# EAGLE library part ATMEGA32U4-MU (library SamacSys_Parts)
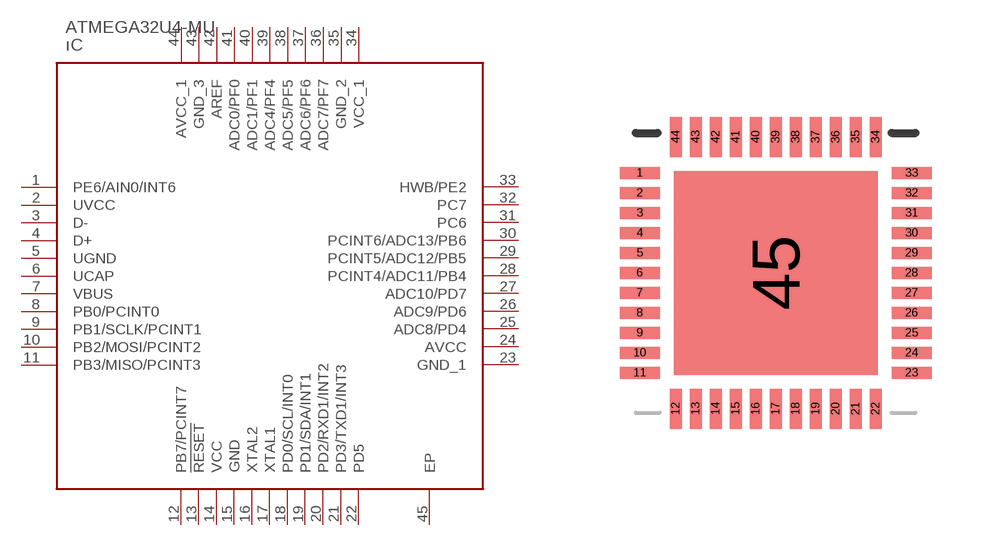
[diagram p21: symbol with the pads of QFN-44; footprint QFN-44]

Designator prefix ıC

## ATMEGA32U4-MU  [QFN-44]
1  PE6/AIN0/INT6
2  UVCC  pwr
3  D-
4  D+
5  UGND  pwr
6  UCAP
7  VBUS  pwr
8  PB0/PCINT0
9  PB1/SCLK/PCINT1
10  PB2/MOSI/PCINT2
11  PB3/MISO/PCINT3
12  PB7/PCINT7
13  !RESET
14  VCC  pwr
15  GND  pwr
16  XTAL2
17  XTAL1
18  PD0/SCL/INT0
19  PD1/SDA/INT1
20  PD2/RXD1/INT2
21  PD3/TXD1/INT3
22  PD5
23  GND_1  pwr
24  AVCC  pwr
25  ADC8/PD4
26  ADC9/PD6
27  ADC10/PD7
28  PCINT4/ADC11/PB4
29  PCINT5/ADC12/PB5
30  PCINT6/ADC13/PB6
31  PC6
32  PC7  in
33  HWB/PE2
34  VCC_1  pwr
35  GND_2  pwr
36  ADC7/PF7
37  ADC6/PF6
38  ADC5/PF5
39  ADC4/PF4
40  ADC1/PF1
41  ADC0/PF0
42  AREF  in
43  GND_3  pwr
44  AVCC_1  pwr
45  EP  pwr

## Footprint QFN-44 (pad centres in mm)
ATMEGA32U4-MU
smd 1 x 0.3: 1 -3.4,2.5; 2 -3.4,2; 3 -3.4,1.5; 4 -3.4,1; 5 -3.4,0.5; 6 -3.4,0; 7 -3.4,-0.5; 8 -3.4,-1; 9 -3.4,-1.5; 10 -3.4,-2; 11 -3.4,-2.5; 23 3.4,-2.5; 24 3.4,-2; 25 3.4,-1.5; 26 3.4,-1; 27 3.4,-0.5; 28 3.4,0; 29 3.4,0.5; 30 3.4,1; 31 3.4,1.5; 32 3.4,2; 33 3.4,2.5
smd 0.3 x 1: 12 -2.5,-3.4; 13 -2,-3.4; 14 -1.5,-3.4; 15 -1,-3.4; 16 -0.5,-3.4; 17 0,-3.4; 18 0.5,-3.4; 19 1,-3.4; 20 1.5,-3.4; 21 2,-3.4; 22 2.5,-3.4; 34 2.5,3.4; 35 2,3.4; 36 1.5,3.4; 37 1,3.4; 38 0.5,3.4; 39 0,3.4; 40 -0.5,3.4; 41 -1,3.4; 42 -1.5,3.4; 43 -2,3.4; 44 -2.5,3.4
smd 5.1 x 5.1: 45 0,0